# Altium footprint library pcb_checked.PcbLib: 89 footprints (part 3 of 6)
Each footprint in its own frame and in the unit in brackets; x right, y up, seen from the top. Pads: shape width x height; smd on the part's side, far side on the other; paste and mask are expansions set on the pad; w line width, h text height; cw(c..) or ccw(c..) is an arc to the next point about the centre after c.
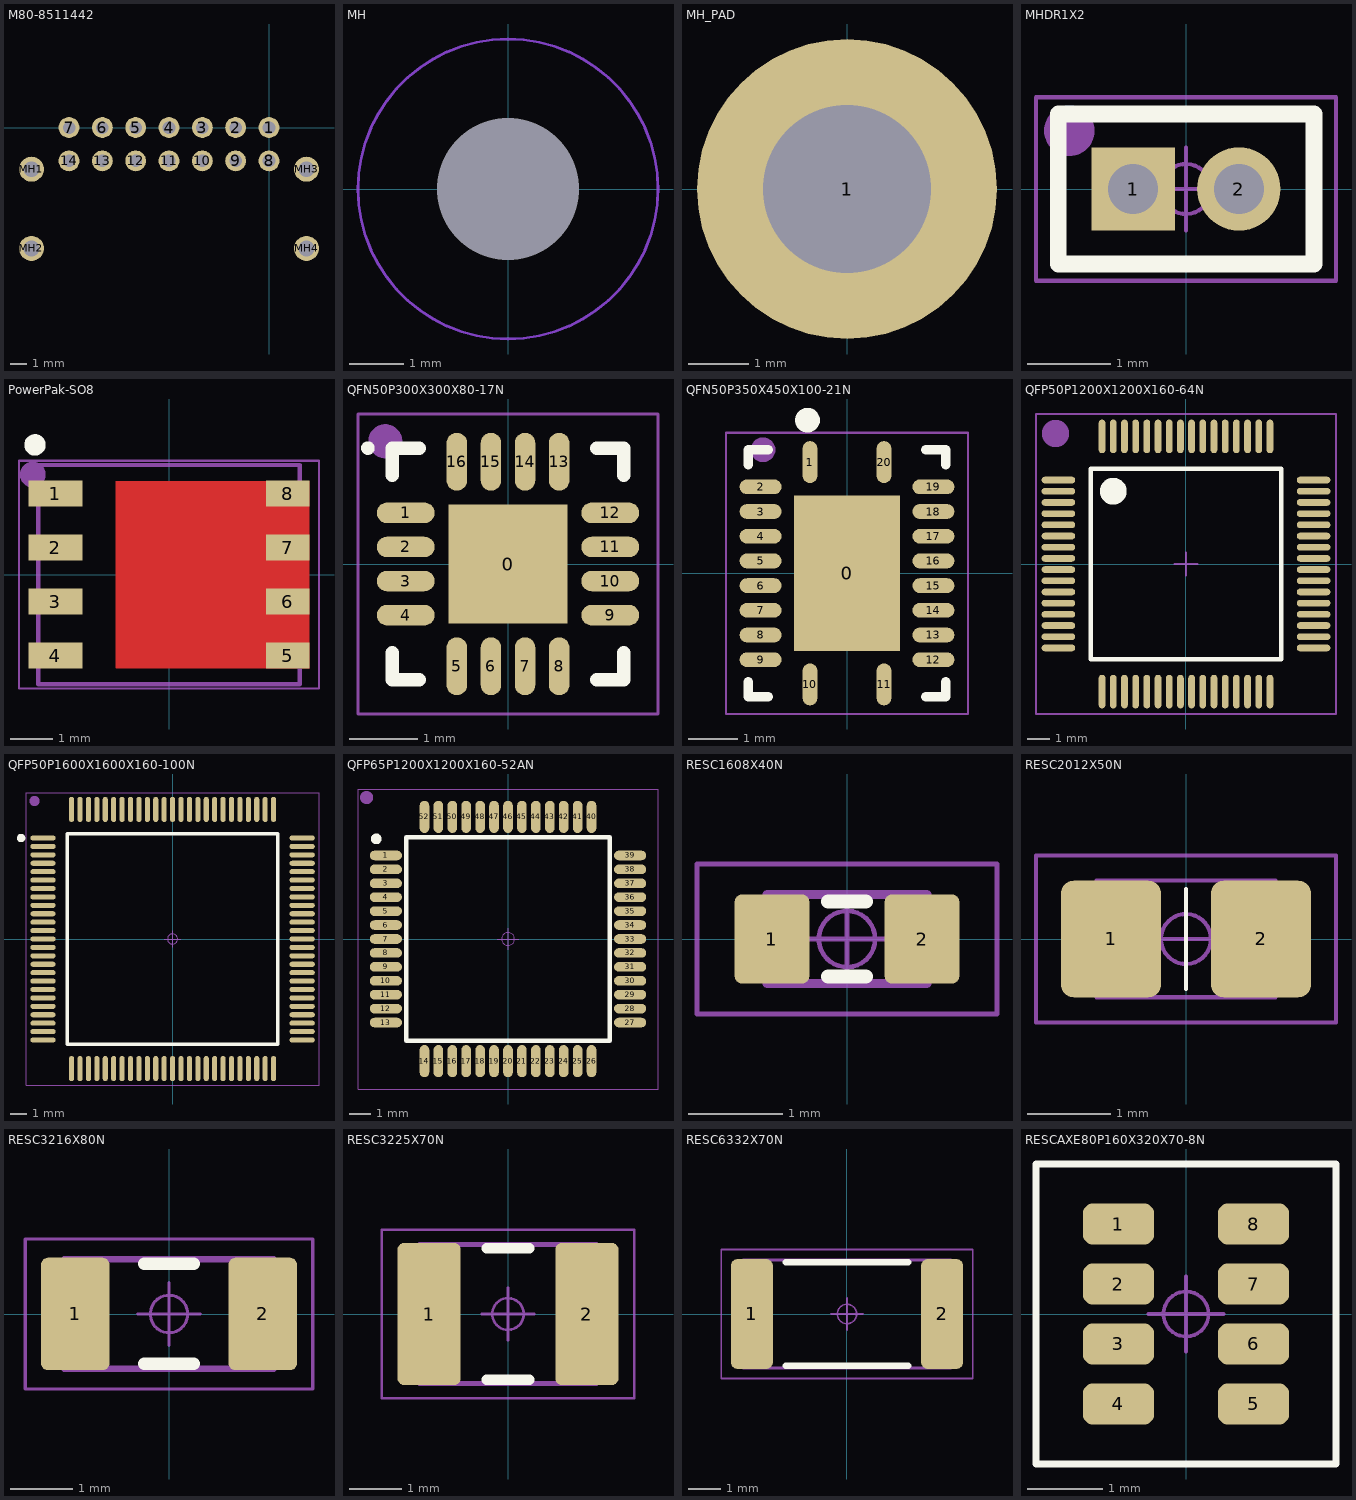
[diagram p2: the footprints below, top view; thin cyan lines are the x and y axes]

## M80-8511442 [mm] "Harwin M80 connector"
pads (18):
  round 1.25 hole 0.75 paste+0: 1(0,0) 2(-2,0) 3(-4,0) 4(-6,0) 5(-8,0) 6(-10,0) 7(-12,0) 8(0,-2) 9(-2,-2) 10(-4,-2) 11(-6,-2) 12(-8,-2) 13(-10,-2) 14(-12,-2)
  round 1.5 hole 0.95 paste+0: MH1(-14.25,-2.5) MH2(-14.25,-7.25) MH3(2.25,-2.5) MH4(2.25,-7.25)
3D body "m80-8511442_asm.stp": height 5.87, standoff -3.17, extent -14.95,-10.85 2.95,0.25
3D body "m80-0030006.stp": height 5.64, standoff -3, extent 1.93,-7.59 2.57,-2.21
3D body "m80-0030006.stp": height 5.64, standoff -3, extent -14.57,-7.54 -13.93,-2.16

## MH [mm] "M2.5 mounting screw"
height 2
pads (1):
  round 0 hole 2.6 unplated paste-10 mask+0.8: 1(0,0)
Top Layer keep-out:
  circle w0.05: c0,0 r2.75
Bottom Layer keep-out:
  circle w0.05: c0,0 r2.75
3D body: height 0, standoff -1.4, extent -1.24,-1.247 1.25,1.248
3D body: height 2, standoff 0, extent -2.5,-2.499 2.5,2.499

## MH_PAD [mm] "M2.5 mounting screw"
height 2
pads (1):
  round 5 hole 2.8 paste-10: 1(0,0)
3D body: height 0, standoff -1.4, extent -1.24,-1.247 1.25,1.248
3D body: height 2, standoff 0, extent -2.5,-2.499 2.5,2.499

## MHDR1X2 [mm] "Connector; Header; 2 Position"
height 1
pads (2):
  rect 1x1 hole 0.6: 1(-0.635,0)
  round 1 hole 0.6: 2(0.635,0)
Top Overlay:
  lines w0.2: -1.535,-0.9 -1.535,0.9 1.535,0.9 1.535,-0.9 -1.535,-0.9
Mechanical 15:
  circle w0.05: c0,0 r0.3
  circle w0.406: c-1.4,0.7 r0.1
  lines w0.05: -0.5,0 0.5,0 ; 0,-0.5 0,0.5 ; -1.8,-1.1 -1.8,1.1 1.8,1.1 1.8,-1.1 -1.8,-1.1
  text ".Designator" at -1.4,-0.85 h1

## PowerPak-SO8 [mm] "TDSON, 8-Leads, Body 6.15x5.15mm, Pitch 1.27mm"
height 1
pads (8):
  rect 1.27x0.61 smd paste-0.05: 1(-2.67,1.905) 2(-2.67,0.635) 3(-2.67,-0.635) 4(-2.67,-1.905)
  rect 1.02x0.61 smd paste-0.05: 5(2.795,-1.905) 6(2.795,-0.635) 7(2.795,0.635) 8(2.795,1.905)
Top Layer:
  region: 2.55,2.2 -1.25,2.2 -1.25,-2.2 2.55,-2.2
  region: 3.3,-2.2 3.3,2.2 2.55,2.2 2.55,-2.2
Top Overlay:
  circle w0.25: c-3.15,3.05 r0.125
Top Paste:
  rectangle: -0.95,0.1 0.55,1.6
  rectangle: -0.95,-1.6 0.55,-0.1
  rectangle: 0.75,-1.6 2.25,-0.1
  rectangle: 0.75,0.1 2.25,1.6
Mechanical 13:
  lines w0.1: -3.075,-2.575 3.075,-2.575 3.075,2.575 -3.075,2.575 -3.075,-2.575
Mechanical 15:
  circle w0.406: c-3.2,2.35 r0.1
  circle w0.05: c0,0 r0.3
  lines w0.05: -0.5,0 0.5,0 ; 0,-0.5 0,0.5 ; -3.525,-2.675 3.525,-2.675 3.525,2.675 -3.525,2.675 -3.525,-2.675
  text ".Designator" at -3.3,-2.45 h1
3D body: height 1, standoff 0, extent -3.075,-2.575 3.075,2.575

## QFN50P300X300X80-17N [mm] "QFN,0.50mm pitch,square;16 pin,3.00mm L X 3.00mm W X 0.80mm H body (w/thermal tab)"
height 0.8
pads (17):
  rect 1.75x1.75 smd paste-100 mask+0.07: 0(0,0)
  oval 0.85x0.3 smd paste-0.05 mask+0.07: 1(-1.5,0.75) 2(-1.5,0.25) 3(-1.5,-0.25) 4(-1.5,-0.75) 9(1.5,-0.75) 10(1.5,-0.25) 11(1.5,0.25) 12(1.5,0.75)
  oval 0.3x0.85 smd paste-0.05 mask+0.07: 5(-0.75,-1.5) 6(-0.25,-1.5) 7(0.25,-1.5) 8(0.75,-1.5) 13(0.75,1.5) 14(0.25,1.5) 15(-0.25,1.5) 16(-0.75,1.5)
Top Overlay:
  circle w0.1: c-2.055,1.7 r0.05
  lines w0.2: -1.7,-1.3 -1.7,-1.7 -1.3,-1.7 ; -1.7,1.3 -1.7,1.7 -1.3,1.7 ; 1.3,-1.7 1.7,-1.7 1.7,-1.3 ; 1.3,1.7 1.7,1.7 1.7,1.3
Top Paste:
  rectangle: -0.8,0.1 -0.1,0.8
  region: -0.1,-0.8 -0.1,-0.1 -0.8,-0.1 -0.8,-0.8
  region: 0.8,-0.1 0.1,-0.1 0.1,-0.8 0.8,-0.8
  region: 0.1,0.8 0.1,0.1 0.8,0.1 0.8,0.8
Mechanical 15:
  circle w0.25: c-1.8,1.8 r0.125
  circle w0.05: c0,0 r0.3
  lines w0.05: -0.5,0 0.5,0 ; 0,-0.5 0,0.5 ; -2.2,-2.2 -2.2,2.2 2.2,2.2 2.2,-2.2 -2.2,-2.2
  text ".Designator" at -2,-1.9 h1
3D body: height 0.8, standoff 0, extent -1.5,-1.5 1.5,1.5

## QFN50P350X450X100-21N [mm] "QFN,0.50mm pitch,rect.;20 pin,4.50mm L X 3.50mm W X 1.00mm H body (w/thermal tab)"
height 1
pads (21):
  rect 2.15x3.15 smd paste-100 mask+0.07: 0(0,0)
  oval 0.3x0.85 smd paste-0.05 mask+0.07: 1(-0.75,2.25) 10(-0.75,-2.25) 11(0.75,-2.25) 20(0.75,2.25)
  oval 0.85x0.3 smd paste-0.05 mask+0.07: 2(-1.75,1.75) 3(-1.75,1.25) 4(-1.75,0.75) 5(-1.75,0.25) 6(-1.75,-0.25) 7(-1.75,-0.75) 8(-1.75,-1.25) 9(-1.75,-1.75) 12(1.75,-1.75) 13(1.75,-1.25) 14(1.75,-0.75) 15(1.75,-0.25) 16(1.75,0.25) 17(1.75,0.75) 18(1.75,1.25) 19(1.75,1.75)
Top Overlay:
  circle w0.25: c-0.8,3.1 r0.125
  lines w0.2: -2,-2.2 -2,-2.5 -1.6,-2.5 ; -2,2.2 -2,2.5 -1.6,2.5 ; 1.6,-2.5 2,-2.5 2,-2.2 ; 1.6,2.5 2,2.5 2,2.2
Top Paste:
  rectangle: 0.15,0.15 0.95,1.4
  rectangle: 0.15,-1.4 0.95,-0.15
  rectangle: -0.95,-1.4 -0.15,-0.15
  rectangle: -0.95,0.15 -0.15,1.4
Mechanical 15:
  circle w0.25: c-1.7,2.5 r0.125
  circle w0.05: c0,0 r0.3
  lines w0.05: -0.5,0 0.5,0 ; 0,-0.5 0,0.5 ; -2.45,-2.85 -2.45,2.85 2.45,2.85 2.45,-2.85 -2.45,-2.85
  text ".Designator" at -2.25,-2.6 h1
3D body: height 1, standoff 0, extent -1.75,-2.25 1.75,2.25

## QFP50P1200X1200X160-64N [mm] "Thin QFP, 64-Leads, Body 10x10mm, Pitch 0.5mm, IPC Medium Density"
height 1.6
pads (64):
  oval 1.5x0.3 smd: 1(-5.7,3.75) 2(-5.7,3.25) 3(-5.7,2.75) 4(-5.7,2.25) 5(-5.7,1.75) 6(-5.7,1.25) 7(-5.7,0.75) 8(-5.7,0.25) 9(-5.7,-0.25) 10(-5.7,-0.75) 11(-5.7,-1.25) 12(-5.7,-1.75) 13(-5.7,-2.25) 14(-5.7,-2.75) 15(-5.7,-3.25) 16(-5.7,-3.75) 33(5.7,-3.75) 34(5.7,-3.25) 35(5.7,-2.75) 36(5.7,-2.25) 37(5.7,-1.75) 38(5.7,-1.25) 39(5.7,-0.75) 40(5.7,-0.25) 41(5.7,0.25) 42(5.7,0.75) 43(5.7,1.25) 44(5.7,1.75) 45(5.7,2.25) 46(5.7,2.75) 47(5.7,3.25) 48(5.7,3.75)
  oval 0.3x1.5 smd: 17(-3.75,-5.7) 18(-3.25,-5.7) 19(-2.75,-5.7) 20(-2.25,-5.7) 21(-1.75,-5.7) 22(-1.25,-5.7) 23(-0.75,-5.7) 24(-0.25,-5.7) 25(0.25,-5.7) 26(0.75,-5.7) 27(1.25,-5.7) 28(1.75,-5.7) 29(2.25,-5.7) 30(2.75,-5.7) 31(3.25,-5.7) 32(3.75,-5.7) 49(3.75,5.7) 50(3.25,5.7) 51(2.75,5.7) 52(2.25,5.7) 53(1.75,5.7) 54(1.25,5.7) 55(0.75,5.7) 56(0.25,5.7) 57(-0.25,5.7) 58(-0.75,5.7) 59(-1.25,5.7) 60(-1.75,5.7) 61(-2.25,5.7) 62(-2.75,5.7) 63(-3.25,5.7) 64(-3.75,5.7)
Top Overlay:
  circle w0.6: c-3.25,3.25 r0.3
  lines w0.2: -4.25,-4.25 -4.25,4.25 4.25,4.25 4.25,-4.25 -4.25,-4.25
Mechanical 15:
  circle w1.016: c-5.828,5.828 r0.1
  lines w0.1: -0.5,0 0.5,0 ; 0,-0.5 0,0.5 ; -6.7,-6.7 -6.7,6.7 6.7,6.7 6.7,-6.7 -6.7,-6.7
  text ".Designator" at -5.4,1.4 h1.02
3D body: height 1.6, standoff 0, extent -5,-5 5,5

## QFP50P1600X1600X160-100N [mm] "QFP,0.50mm pitch,square;100 pin,14.00mm L X 14.00mm W X 1.60mm H body"
height 1.6
pads (100):
  oval 1.5x0.3 smd: 1(-7.7,6) 2(-7.7,5.5) 3(-7.7,5) 4(-7.7,4.5) 5(-7.7,4) 6(-7.7,3.5) 7(-7.7,3) 8(-7.7,2.5) 9(-7.7,2) 10(-7.7,1.5) 11(-7.7,1) 12(-7.7,0.5) 13(-7.7,0) 14(-7.7,-0.5) 15(-7.7,-1) 16(-7.7,-1.5) 17(-7.7,-2) 18(-7.7,-2.5) 19(-7.7,-3) 20(-7.7,-3.5) 21(-7.7,-4) 22(-7.7,-4.5) 23(-7.7,-5) 24(-7.7,-5.5) 25(-7.7,-6) 51(7.7,-6) 52(7.7,-5.5) 53(7.7,-5) 54(7.7,-4.5) 55(7.7,-4) 56(7.7,-3.5) 57(7.7,-3) 58(7.7,-2.5) 59(7.7,-2) 60(7.7,-1.5) 61(7.7,-1) 62(7.7,-0.5) 63(7.7,0) 64(7.7,0.5) 65(7.7,1) 66(7.7,1.5) 67(7.7,2) 68(7.7,2.5) 69(7.7,3) 70(7.7,3.5) 71(7.7,4) 72(7.7,4.5) 73(7.7,5) 74(7.7,5.5) 75(7.7,6)
  oval 0.3x1.5 smd: 26(-6,-7.7) 27(-5.5,-7.7) 28(-5,-7.7) 29(-4.5,-7.7) 30(-4,-7.7) 31(-3.5,-7.7) 32(-3,-7.7) 33(-2.5,-7.7) 34(-2,-7.7) 35(-1.5,-7.7) 36(-1,-7.7) 37(-0.5,-7.7) 38(0,-7.7) 39(0.5,-7.7) 40(1,-7.7) 41(1.5,-7.7) 42(2,-7.7) 43(2.5,-7.7) 44(3,-7.7) 45(3.5,-7.7) 46(4,-7.7) 47(4.5,-7.7) 48(5,-7.7) 49(5.5,-7.7) 50(6,-7.7) 76(6,7.7) 77(5.5,7.7) 78(5,7.7) 79(4.5,7.7) 80(4,7.7) 81(3.5,7.7) 82(3,7.7) 83(2.5,7.7) 84(2,7.7) 85(1.5,7.7) 86(1,7.7) 87(0.5,7.7) 88(0,7.7) 89(-0.5,7.7) 90(-1,7.7) 91(-1.5,7.7) 92(-2,7.7) 93(-2.5,7.7) 94(-3,7.7) 95(-3.5,7.7) 96(-4,7.7) 97(-4.5,7.7) 98(-5,7.7) 99(-5.5,7.7) 100(-6,7.7)
Top Overlay:
  circle w0.25: c-9,6 r0.125
  lines w0.2: -6.25,-6.25 6.25,-6.25 6.25,6.25 -6.25,6.25 -6.25,-6.25
Mechanical 15:
  circle w0.05: c0,0 r0.3
  circle w0.406: c-8.2,8.2 r0.1
  lines w0.05: -0.5,0 0.5,0 ; 0,-0.5 0,0.5 ; -8.7,-8.7 8.7,-8.7 8.7,8.7 -8.7,8.7 -8.7,-8.7
  text ".Designator" at -8.3,-8.1 h1
3D body: height 1.6, standoff 0, extent -7,-7 7,7

## QFP65P1200X1200X160-52AN [mm] "QFP,0.65mm pitch,square;52 pin,10.00mm L X 10.00mm W X 1.60mm H body"
height 1.6
pads (52):
  oval 1.5x0.45 smd: 1(-5.7,3.9) 2(-5.7,3.25) 3(-5.7,2.6) 4(-5.7,1.95) 5(-5.7,1.3) 6(-5.7,0.65) 7(-5.7,0) 8(-5.7,-0.65) 9(-5.7,-1.3) 10(-5.7,-1.95) 11(-5.7,-2.6) 12(-5.7,-3.25) 13(-5.7,-3.9) 27(5.7,-3.9) 28(5.7,-3.25) 29(5.7,-2.6) 30(5.7,-1.95) 31(5.7,-1.3) 32(5.7,-0.65) 33(5.7,0) 34(5.7,0.65) 35(5.7,1.3) 36(5.7,1.95) 37(5.7,2.6) 38(5.7,3.25) 39(5.7,3.9)
  oval 0.45x1.5 smd: 14(-3.9,-5.7) 15(-3.25,-5.7) 16(-2.6,-5.7) 17(-1.95,-5.7) 18(-1.3,-5.7) 19(-0.65,-5.7) 20(0,-5.7) 21(0.65,-5.7) 22(1.3,-5.7) 23(1.95,-5.7) 24(2.6,-5.7) 25(3.25,-5.7) 26(3.9,-5.7) 40(3.9,5.7) 41(3.25,5.7) 42(2.6,5.7) 43(1.95,5.7) 44(1.3,5.7) 45(0.65,5.7) 46(0,5.7) 47(-0.65,5.7) 48(-1.3,5.7) 49(-1.95,5.7) 50(-2.6,5.7) 51(-3.25,5.7) 52(-3.9,5.7)
Top Overlay:
  circle w0.25: c-6.15,4.675 r0.125
  lines w0.2: -4.75,-4.75 -4.75,4.75 4.75,4.75 4.75,-4.75 -4.75,-4.75
Mechanical 15:
  circle w0.05: c0,0 r0.3
  circle w0.406: c-6.6,6.6 r0.1
  lines w0.05: -0.5,0 0.5,0 ; 0,-0.5 0,0.5 ; -7,-7 -7,7 7,7 7,-7 -7,-7
  text ".Designator" at -6.7,-6.6 h1
3D body: height 1.6, standoff 0, extent -5,-5 5,5

## RESC1608X40N [mm] "Chip Resistor, Body 1.6x0.8mm, IPC Medium Density"
height 0.4
pads (2):
  rrect20% 0.8x0.95 smd: 1(-0.8,0) 2(0.8,0)
Top Overlay:
  lines w0.15: -0.2,-0.4 0.2,-0.4 ; -0.2,0.4 0.2,0.4
Mechanical 13:
  lines w0.1: -0.85,-0.475 -0.85,0.475 0.85,0.475 0.85,-0.475 -0.85,-0.475
Mechanical 15:
  circle w0.05: c0,0 r0.3
  lines w0.05: -0.475,0 0.475,0 ; 0,-0.475 0,0.475 ; -1.6,-0.8 -1.6,0.8 1.6,0.8 1.6,-0.8 -1.6,-0.8
  text ".Designator" at -1.35,-0.6 h1
3D body: height 0.4, standoff 0, extent -0.85,-0.475 0.85,0.475

## RESC2012X50N [mm] "Chip Resistor, Body 2.0x1.3mm, IPC Medium Density"
height 0.5
pads (2):
  rrect25% 1.2x1.4 smd: 1(-0.9,0) 2(0.9,0)
Top Overlay:
  lines w0.05: 0,-0.6 0,0.6
Mechanical 13:
  lines w0.05: -1.075,-0.7 -1.075,0.7 1.075,0.7 1.075,-0.7 -1.075,-0.7
Mechanical 15:
  circle w0.05: c0,0 r0.3
  lines w0.05: -0.5,0 0.5,0 ; 0,-0.5 0,0.5 ; -1.8,-1 -1.8,1 1.8,1 1.8,-1 -1.8,-1
  text ".Designator" at -1.6,-0.85 h1
3D body: height 0.5, standoff 0, extent -1.075,-0.7 1.075,0.7

## RESC3216X80N [mm] "Chip Resistor, Body 3.2x1.6mm, IPC Medium Density"
height 0.8
pads (2):
  rrect20% 1.1x1.8 smd: 1(-1.5,0) 2(1.5,0)
Top Overlay:
  lines w0.2: -0.4,-0.8 0.4,-0.8 ; -0.4,0.8 0.4,0.8
Mechanical 13:
  lines w0.1: -1.675,-0.875 1.675,-0.875 1.675,0.875 -1.675,0.875 -1.675,-0.875
Mechanical 15:
  circle w0.05: c0,0 r0.3
  lines w0.05: -0.5,0 0.5,0 ; 0,-0.5 0,0.5 ; -2.3,-1.2 2.3,-1.2 2.3,1.2 -2.3,1.2 -2.3,-1.2
  text ".Designator" at -2.25,-1.05 h1
3D body: height 0.8, standoff 0, extent -1.675,-0.875 1.675,0.875

## RESC3225X70N [mm] "Chip Resistor, Body 3.2x2.5mm, IPC Medium Density"
height 0.7
pads (2):
  rrect20% 1.2x2.7 smd: 1(-1.5,0) 2(1.5,0)
Top Overlay:
  lines w0.2: -0.4,-1.25 0.4,-1.25 ; -0.4,1.25 0.4,1.25
Mechanical 13:
  lines w0.1: -1.675,-1.32 1.675,-1.32 1.675,1.32 -1.675,1.32 -1.675,-1.32
Mechanical 15:
  circle w0.05: c0,0 r0.3
  lines w0.05: -0.5,0 0.5,0 ; 0,-0.5 0,0.5 ; -2.4,-1.6 2.4,-1.6 2.4,1.6 -2.4,1.6 -2.4,-1.6
  text ".Designator" at -2.2,-1.45 h1
3D body: height 0.7, standoff 0, extent -1.675,-1.32 1.675,1.32

## RESC6332X70N [mm] "Chip Resistor, Body 6.3x3.2mm, IPC Medium Density"
height 0.7
pads (2):
  rrect30% 1.3x3.4 smd: 1(-2.95,0) 2(2.95,0)
Top Overlay:
  lines w0.2: -1.9,-1.6 1.9,-1.6 ; -1.9,1.6 1.9,1.6
Mechanical 13:
  lines w0.1: -3.225,-1.675 -3.225,1.675 3.225,1.675 3.225,-1.675 -3.225,-1.675
Mechanical 15:
  circle w0.05: c0,0 r0.3
  lines w0.05: -0.5,0 0.5,0 ; 0,-0.5 0,0.5 ; -3.9,-2 -3.9,2 3.9,2 3.9,-2 -3.9,-2
  text ".Designator" at -3.3,-1.7 h1
3D body: height 0.7, standoff 0, extent -3.225,-1.675 3.225,1.675

## RESCAXE80P160X320X70-8N [mm] "Resistor,Chip Array,0.80mm pitch;8 pin,1.60mm W X 3.20mm L X 0.70mm H"
height 0.7
pads (8):
  rrect50% 0.95x0.55 smd paste-0.03: 1(-0.9,1.2) 2(-0.9,0.4) 3(-0.9,-0.4) 4(-0.9,-1.2) 5(0.9,-1.2) 6(0.9,-0.4) 7(0.9,0.4) 8(0.9,1.2)
Top Overlay:
  lines w0.1: -2,-2 2,-2 2,2 -2,2 -2,-2
Mechanical 15:
  circle w0.05: c0,0 r0.3
  lines w0.05: -0.5,0 0.5,0 ; 0,-0.5 0,0.5 ; -2,-2 -2,2 2,2 2,-2 -2,-2
  text ".Designator" at -1.9,-1.8 h1
3D body: height 0.7, standoff 0, extent -0.8,-1.6 0.8,1.6